# Altium footprint library AM32_ESC.PcbLib: 17 footprints (part 2 of 2)
Each footprint in its own frame and in the unit in brackets; x right, y up, seen from the top. Pads: shape width x height; smd on the part's side, far side on the other; paste and mask are expansions set on the pad; w line width, h text height; cw(c..) or ccw(c..) is an arc to the next point about the centre after c.
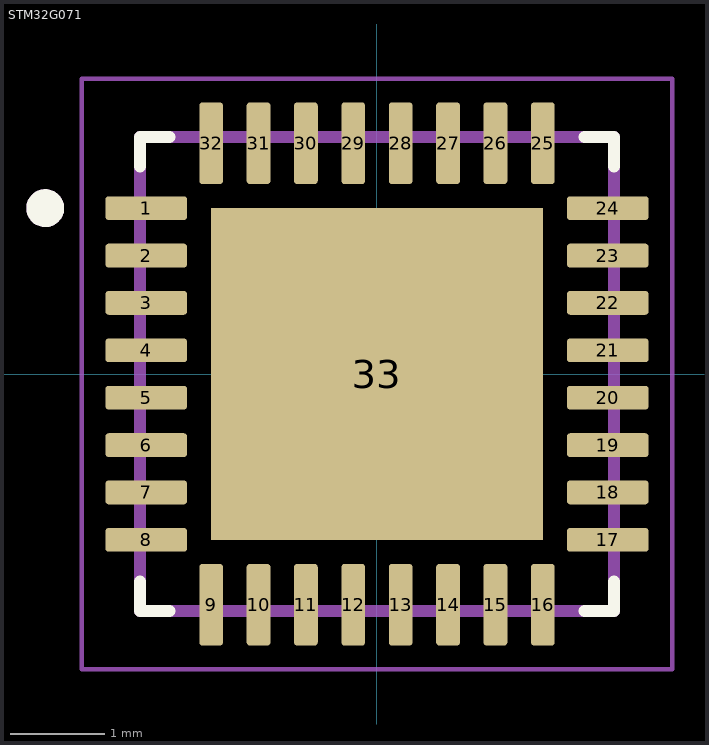
[diagram p1: the footprint, top view; thin cyan lines are the x and y axes]

## STM32G071 [mm]
height 0.6
pads (33):
  rrect25% 0.86x0.25 smd: 1(-2.435,1.75) 2(-2.435,1.25) 3(-2.435,0.75) 4(-2.435,0.25) 5(-2.435,-0.25) 6(-2.435,-0.75) 7(-2.435,-1.25) 8(-2.435,-1.75) 17(2.435,-1.75) 18(2.435,-1.25) 19(2.435,-0.75) 20(2.435,-0.25) 21(2.435,0.25) 22(2.435,0.75) 23(2.435,1.25) 24(2.435,1.75)
  rrect25% 0.25x0.86 smd: 9(-1.75,-2.435) 10(-1.25,-2.435) 11(-0.75,-2.435) 12(-0.25,-2.435) 13(0.25,-2.435) 14(0.75,-2.435) 15(1.25,-2.435) 16(1.75,-2.435) 25(1.75,2.435) 26(1.25,2.435) 27(0.75,2.435) 28(0.25,2.435) 29(-0.25,2.435) 30(-0.75,2.435) 31(-1.25,2.435) 32(-1.75,2.435)
  rect 3.5x3.5 smd paste-0.643: 33(0,0)
Top Overlay:
  circle w0.2: c-3.5,1.75 r0.1
  lines w0.127: -2.5,-2.188 -2.5,-2.5 -2.188,-2.5 ; -2.5,2.188 -2.5,2.5 -2.188,2.5 ; 2.188,-2.5 2.5,-2.5 2.5,-2.188 ; 2.188,2.5 2.5,2.5 2.5,2.188
Mechanical 13:
  circle w0.2: c-3.5,1.75 r0.1
  lines w0.127: -2.5,-2.5 2.5,-2.5 2.5,2.5 -2.5,2.5 -2.5,-2.5
Mechanical 15:
  lines w0.05: -3.115,-3.115 3.115,-3.115 3.115,3.115 -3.115,3.115 -3.115,-3.115
3D body "step_temp.STEP": height 0.6, standoff 0, extent -2.5,-2.5 2.5,2.5